# EAGLE library part LSM303DLHCTR (library LSM303)
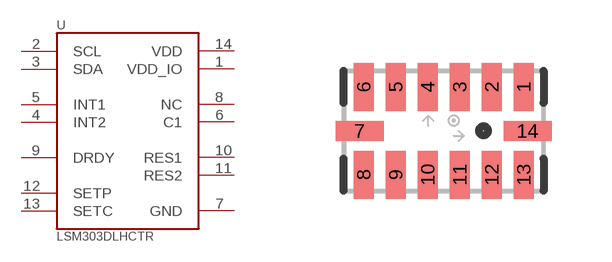
[diagram p0: symbol with the pads of LGA14; footprint LGA14]

Designator prefix U

## LSM303DLHCTR  [LGA14]
1  VDD_IO
2  SCL
3  SDA
4  INT2
5  INT1
6  C1
7  GND
8  NC
9  DRDY
10  RES1
11  RES2
12  SETP
13  SETC
14  VDD

## Footprint LGA14 (pad centres in mm)
smd 0.5 x 1.2: 1 2,1.1; 2 1.2,1.1; 3 0.4,1.1; 4 -0.4,1.1; 5 -1.2,1.1; 6 -2,1.1; 8 -2,-1.1; 9 -1.2,-1.1; 10 -0.4,-1.1; 11 0.4,-1.1; 12 1.2,-1.1; 13 2,-1.1
smd 1.2 x 0.5: 7 -2.1,0; 14 2.1,0